# Altium schematic symbol library Sch_Inductors.SchLib: 6 symbols
Pins are listed as number, name and electrical type; pins without a type are passive.

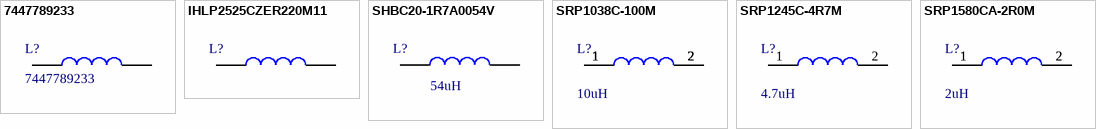
[diagram p0: symbols 7447789233 to SRP1580CA-2R0M]

## 7447789233
designator L?
Inductor 330uH; Manufacturer_Name: Wurth Elektronik; Manufacturer_Part_Number: 7447789233
footprint WE-PD_7332/7345_PLASTIC_BASE54 (Footprint not found)
pins: 1, 2

## IHLP2525CZER220M11
designator L?  (value not drawn)
Inductor 22uH; Manufacturer_Name: Vishay; Datasheet Link: https://componentsearchengine.com/Datasheets/1/IHLP2525CZER220M11.pdf; Height: 3mm; Manufacturer_Part_Number: IHLP2525CZER220M11; Mouser Part Number: 70-IHLP2525CZER220; Mouser Price/Stock: https://www.mouser.co.uk/ProductDetail/Vishay-Dale/IHLP2525CZER220M11?qs=sy7P%252B1cA09hqmhD2Kelr6g%3D%3D; Arrow Part Number: IHLP2525CZER220M11; Arrow Price/Stock: https://www.arrow.com/en/products/ihlp2525czer220m11/vishay?region=europe; Value: 22uH
footprint INDPM6965X300N
pins: 1, 2

## SHBC20-1R7A0054V
designator L?  value 54uH  (hidden comment: SHBC20-1R7A0054V)
Inductor 54uH
footprint SHBC201R7A0054V
pins: 1, 1, 2, 2

## SRP1038C-100M
designator L?  value 10uH  (hidden comment: SRP1038C-100M)
Inductor 10uH; Manufacturer_Name: Bourns; Datasheet Link: https://www.bourns.com/data/global/pdfs/SRP1038A.pdf; Height: 4mm; Manufacturer_Part_Number: SRP1038C-100M; Mouser Part Number: 652-SRP1038C-100M; Mouser Price/Stock: https://www.mouser.co.uk/ProductDetail/Bourns/SRP1038C-100M?qs=PzGy0jfpSMvAa%252BP05u%252BK2w%3D%3D; Arrow Part Number: SRP1038C-100M; Arrow Price/Stock: https://www.arrow.com/en/products/srp1038c-100m/bourns
footprint INDPM110100X400N
pins: 1, 1, 1, 1, 1, 1, 1, 1, 2, 2, 2, 2, 2, 2, 2, 2

## SRP1245C-4R7M
designator L?  value 4.7uH  (hidden comment: SRP1245C-4R7M)
Inductor 4.7uH; Manufacturer_Name: Bourns; Manufacturer_Part_Number: SRP1038C-100M; Datasheet Link: https://www.bourns.com/data/global/pdfs/SRP1038A.pdf; Height: 4mm; Mouser Part Number: 652-SRP1038C-100M; Mouser Price/Stock: https://www.mouser.co.uk/ProductDetail/Bourns/SRP1038C-100M?qs=PzGy0jfpSMvAa%252BP05u%252BK2w%3D%3D; Arrow Part Number: SRP1038C-100M; Arrow Price/Stock: https://www.arrow.com/en/products/srp1038c-100m/bourns
footprint INDPM110100X400N
pins: 1, 2

## SRP1580CA-2R0M
designator L?  value 2uH  (hidden comment: SRP1580CA-2R0M)
Inductor 2uH; Manufacturer_Name: Bourns; Manufacturer_Part_Number: SRP1038C-100M; Datasheet Link: https://www.bourns.com/data/global/pdfs/SRP1038A.pdf; Height: 4mm; Mouser Part Number: 652-SRP1038C-100M; Mouser Price/Stock: https://www.mouser.co.uk/ProductDetail/Bourns/SRP1038C-100M?qs=PzGy0jfpSMvAa%252BP05u%252BK2w%3D%3D; Arrow Part Number: SRP1038C-100M; Arrow Price/Stock: https://www.arrow.com/en/products/srp1038c-100m/bourns
footprint SRP1510CA100M
pins: 1, 1, 2, 2